# Altium footprint library LIANGJICHAO_LIBRARY.PCBLIB: 178 footprints (part 3 of 12)
Each footprint in its own frame and in the unit in brackets; x right, y up, seen from the top. Pads: shape width x height; smd on the part's side, far side on the other; paste and mask are expansions set on the pad; w line width, h text height; cw(c..) or ccw(c..) is an arc to the next point about the centre after c.
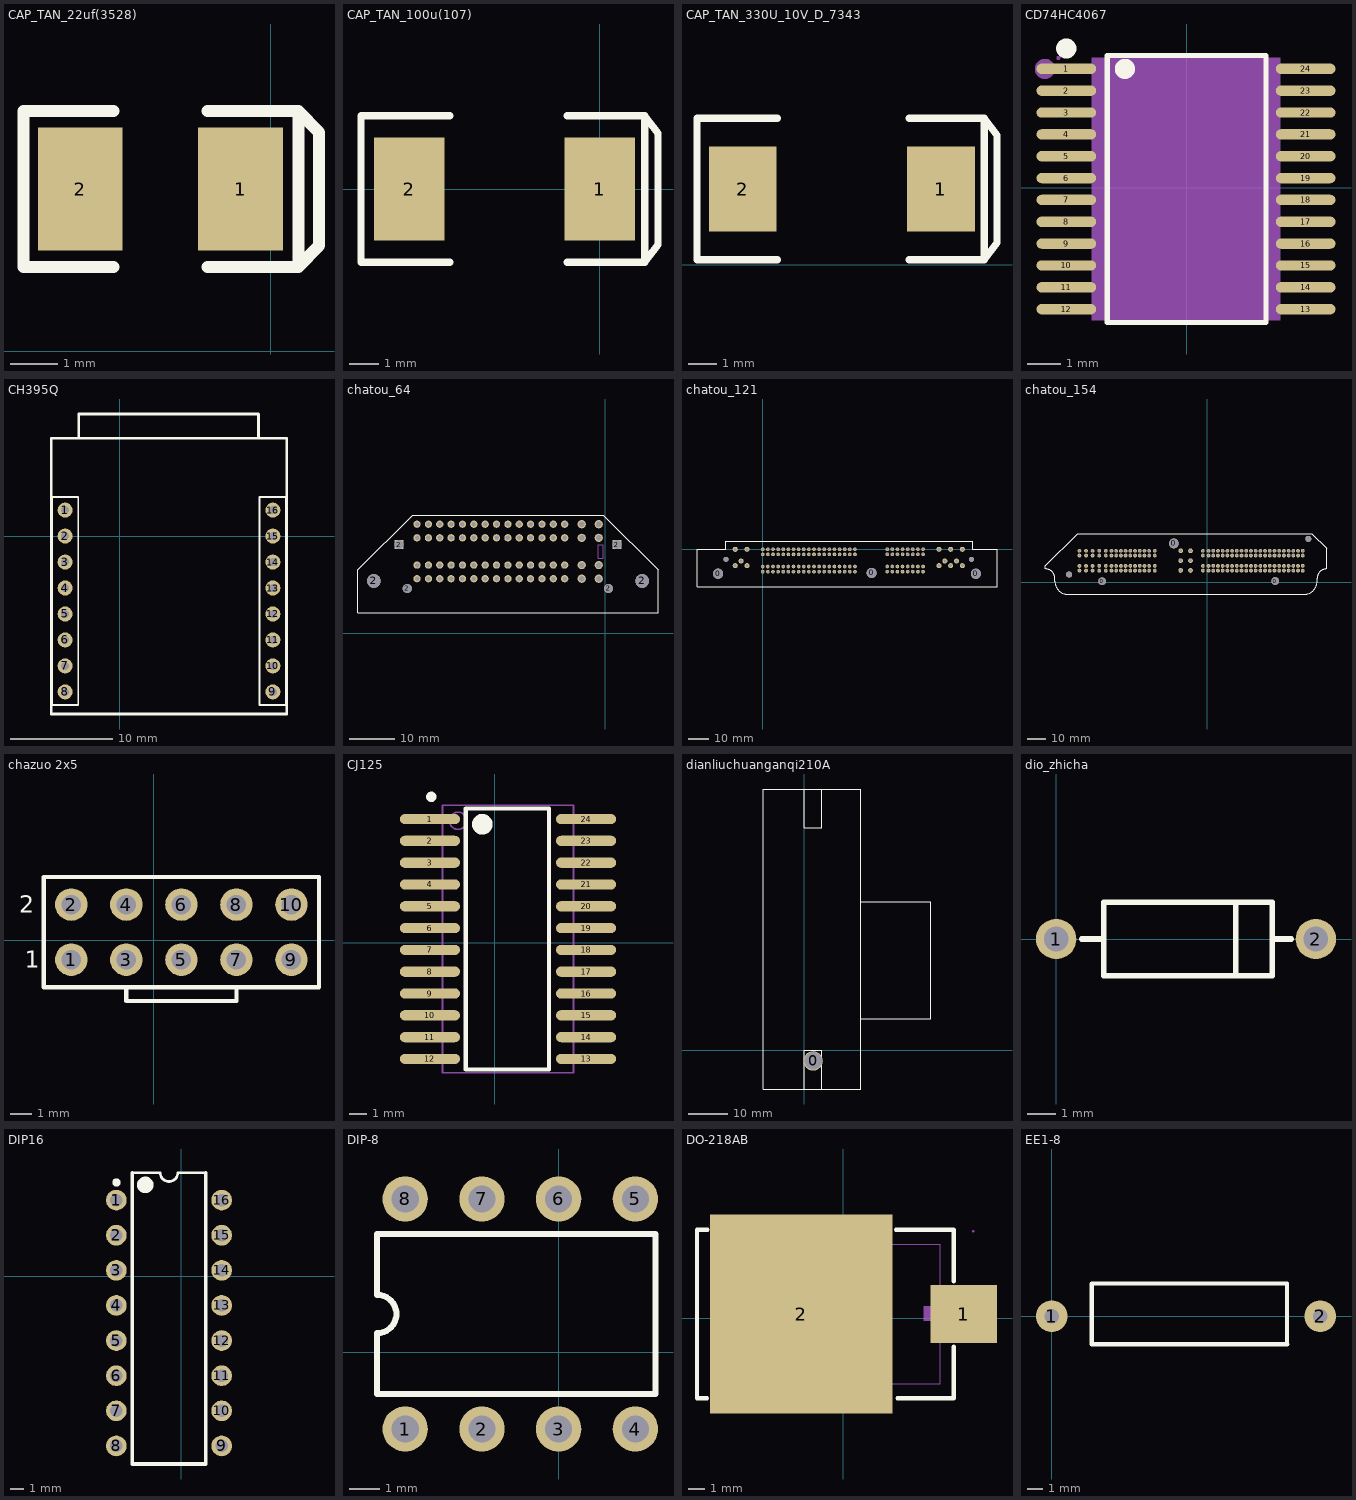
[diagram p2: the footprints below, top view; thin cyan lines are the x and y axes]

## CAP_TAN_22uf(3528) [mm]
pads (2):
  rect 1.8x2.6 smd: 1(-0.635,3.437) 2(-4.035,3.437)
Top Overlay:
  lines w0.254: -3.335,1.787 -5.237,1.787 -5.237,5.087 -3.335,5.087 ; -1.335,1.787 0.592,1.787 ; -1.335,5.087 0.592,5.087 ; 0.592,1.787 0.592,5.087 ; 0.592,1.787 1.028,2.237 1.028,4.637 0.592,5.087

## CAP_TAN_100u(107) [mm]
pads (2):
  rect 2.4x3.5 smd: 1(0,0) 2(-6.5,0)
Top Overlay:
  lines w0.254: -5.12,-2.5 -8.148,-2.5 -8.148,2.5 -5.12,2.5 ; -1.12,-2.5 1.527,-2.5 ; -1.12,2.5 1.527,2.5 ; 1.527,-2.5 1.98,-1.9 1.98,1.9 1.527,2.5 ; 1.527,-2.5 1.527,2.5

## CAP_TAN_330U_10V_D_7343 [mm]
pads (2):
  rect 2.4x3 smd: 1(11.064,2.667) 2(4.064,2.667)
Top Overlay:
  lines w0.254: 5.289,0.167 2.447,0.167 2.447,5.167 5.289,5.167 ; 9.944,0.167 12.591,0.167 ; 9.944,5.167 12.591,5.167 ; 12.591,0.167 12.591,5.167 ; 12.591,0.167 13.044,0.767 13.044,4.567 12.591,5.167

## CD74HC4067 [mil]
pads (24):
  oval 70x12.13 smd: 1(-140.98,139.22) 2(-140.98,113.63) 3(-140.98,88.04) 4(-140.98,62.45) 5(-140.98,36.86) 6(-140.98,11.27) 7(-140.98,-14.32) 8(-140.98,-39.92) 9(-140.98,-65.51) 10(-140.98,-91.1) 11(-140.98,-116.69) 12(-140.98,-142.28) 13(139.5,-142.28) 14(139.5,-116.69) 15(139.5,-91.1) 16(139.5,-65.51) 17(139.5,-39.92) 18(139.5,-14.32) 19(139.5,11.27) 20(139.5,36.86) 21(139.5,62.45) 22(139.5,88.04) 23(139.5,113.63) 24(139.5,139.22)
Top Overlay:
  circle w11.81: c-72.35,139.22 r5.91
  circle w11.81: c-140.98,163.09 r5.91
  lines w6: -93,-158.07 93,-158.07 93,155.01 -93,155.01 -93,-158.07
Mechanical 4:
  region: -110.98,152.01 109.5,152.01 109.5,-155.07 -110.98,-155.07
Mechanical 5:
  drawing of 48 lines, arcs and shapes, not listed
Mechanical 6:
  circle w2.36: c-150.35,152.01 r1.18
Mechanical 15:
  circle w11.81: c-166.09,139.22 r5.91

## CH395Q [mil]
pads (16):
  round 58 hole 31: 1(-210,100.41) 2(-210,0.41) 3(-210,-99.59) 4(-210,-199.59) 5(-210,-299.59) 6(-210,-399.59) 7(-210,-499.59) 8(-210,-599.59) 9(590,-599.59) 10(590,-499.59) 11(590,-399.59) 12(590,-299.59) 13(590,-199.59) 14(590,-99.59) 15(590,0.41) 16(590,100.41)
Top Overlay:
  lines w7: -261,-650 -160,-650 -160,151 -261,151 -261,-650 ; 539,-650 539,151 640,151 640,-650 539,-650
  lines w10: -263,377 -263,-685 643,-685 643,378 -262,378 ; -158,378 -158,471 535,471 535,378

## chatou_64 [mm]
pads (70):
  round 1.6 hole 1: 1(-41.459,11.956) 2(-38.959,11.956) 3(-36.459,11.956) 4(-33.959,11.956) 5(-31.459,11.956) 6(-28.959,11.956) 7(-26.459,11.956) 8(-23.959,11.956) 9(-21.459,11.956) 10(-18.959,11.956) 11(-16.459,11.956) 12(-13.959,11.956) 13(-11.459,11.956) 14(-8.959,11.956) 19(-8.959,14.956) 20(-11.459,14.956) 21(-13.959,14.956) 22(-16.459,14.956) 23(-18.959,14.956) 24(-21.459,14.956) 25(-23.959,14.956) 26(-26.459,14.956) 27(-28.959,14.956) 28(-31.459,14.956) 29(-33.959,14.956) 30(-36.459,14.956) 31(-38.959,14.956) 32(-41.459,14.956) 33(-41.459,20.956) 34(-38.959,20.956) 35(-36.459,20.956) 36(-33.959,20.956) 37(-31.459,20.956) 38(-28.959,20.956) 39(-26.459,20.956) 40(-23.959,20.956) 41(-21.459,20.956) 42(-18.959,20.956) 43(-16.459,20.956) 44(-13.959,20.956) 45(-11.459,20.956) 46(-8.959,20.956) 51(-8.959,23.956) 52(-11.459,23.956) 53(-13.959,23.956) 54(-16.459,23.956) 55(-18.959,23.956) 56(-21.459,23.956) 57(-23.959,23.956) 58(-26.459,23.956) 59(-28.959,23.956) 60(-31.459,23.956) 61(-33.959,23.956) 62(-36.459,23.956) 63(-38.959,23.956) 64(-41.459,23.956)
  round 3 hole 3: 2(-50.959,11.456) 2(8.089,11.456)
  rect 2x2 hole 2 square: 2(-45.411,19.456) 2(2.541,19.456)
  round 2 hole 2: 2(-43.611,9.804) 2(0.693,9.804)
  round 1.8 hole 1.2: 15(-5.209,11.956) 16(-1.459,11.956) 17(-1.459,14.956) 18(-5.209,14.956) 47(-5.209,20.956) 48(-1.459,20.956) 49(-1.459,23.956) 50(-5.209,23.956)
Top Overlay:
  lines w0.254: 11.589,13.931 11.589,4.431 -54.459,4.431 -54.459,13.956 -42.459,25.956 -41.459,25.956 -1.459,25.956 -0.459,25.956 -0.411,25.956 11.589,13.956
Mechanical 1:
  lines w0.254: -1.62,16.459 -1.62,19.459 -0.429,19.459 -0.42,19.45 -0.42,17.959 -0.42,16.459 -1.62,16.459

## chatou_121 [mm]
pads (126):
  round 5 hole 5: 0(-22.173,-12.13) 0(54,-11.709) 0(105.664,-12.141)
  round 2.5 hole 2.5: 0(-18.276,-5) 0(103.524,-5)
  round 2.5 hole 1.5: 1(-13.673,-8.13) 2(-7.873,-8.13) 3(-10.776,-5.8) 4(-13.673,0) 5(-7.873,0) 114(87.4,-8.13) 115(93.2,-8.13) 116(99,-8.13) 117(90.297,-5.8) 118(96.097,-5.8) 119(87.4,0) 120(93.2,0) 121(99,0)
  round 1.8 hole 1.1: 6(45.72,0) 7(43.18,0) 8(40.64,0) 9(38.1,0) 10(35.56,0) 11(33.02,0) 12(30.48,0) 13(27.94,0) 14(25.4,0) 15(22.86,0) 16(20.32,0) 17(17.78,0) 18(15.24,0) 19(12.7,0) 20(10.16,0) 21(7.62,0) 22(5.08,0) 23(2.54,0) 24(0,0) 25(45.72,-2.54) 26(43.18,-2.54) 27(40.64,-2.54) 28(38.1,-2.54) 29(35.56,-2.54) 30(33.02,-2.54) 31(30.48,-2.54) 32(27.94,-2.54) 33(25.4,-2.54) 34(22.86,-2.54) 35(20.32,-2.54) 36(17.78,-2.54) 37(15.24,-2.54) 38(12.7,-2.54) 39(10.16,-2.54) 40(7.62,-2.54) 41(5.08,-2.54) 42(2.54,-2.54) 43(0,-2.54) 44(45.72,-8.56) 45(43.18,-8.56) 46(40.615,-8.56) 47(38.075,-8.56) 48(35.535,-8.56) 49(32.995,-8.56) 50(30.455,-8.56) 51(27.915,-8.56) 52(25.4,-8.56) 53(22.86,-8.56) 54(20.32,-8.56) 55(17.78,-8.56) 56(15.215,-8.56) 57(12.675,-8.56) 58(10.135,-8.56) 59(7.595,-8.56) 60(5.055,-8.56) 61(2.515,-8.56) 62(-0.025,-8.56) 63(45.72,-11.1) 64(43.18,-11.1) 65(40.615,-11.1) 66(38.075,-11.1) 67(35.535,-11.1) 68(32.995,-11.1) 69(30.455,-11.1) 70(27.915,-11.1) 71(25.4,-11.1) 72(22.86,-11.1) 73(20.32,-11.1) 74(17.78,-11.1) 75(15.215,-11.1) 76(12.675,-11.1) 77(10.135,-11.1) 78(7.595,-11.1) 79(5.055,-11.1) 80(2.515,-11.1) 81(-0.025,-11.1) 82(61.697,-11.074) 83(64.237,-11.074) 84(66.777,-11.074) 85(69.317,-11.074) 86(71.857,-11.074) 87(74.397,-11.074) 88(76.962,-11.074) 89(79.502,-11.074) 90(61.697,-8.534) 91(64.237,-8.534) 92(66.777,-8.534) 93(69.317,-8.534) 94(71.857,-8.534) 95(74.397,-8.534) 96(76.962,-8.534) 97(79.502,-8.534) 98(61.722,-2.515) 99(64.262,-2.515) 100(66.802,-2.515) 101(69.342,-2.515) 102(71.882,-2.515) 103(74.422,-2.515) 104(76.962,-2.515) 105(79.502,-2.515) 106(61.722,0.025) 107(64.262,0.025) 108(66.802,0.025) 109(69.342,0.025) 110(71.882,0.025) 111(74.422,0.025) 112(76.962,0.025) 113(79.502,0.025)
Top Overlay:
  lines w0.254: -32.637,0 -18.39,0 -18.39,3.988 104.242,3.988 104.242,0 104.267,-0.025 116.18,-0.025 116.18,-18.593 -29.591,-18.593 ; -32.614,-0.024 -32.614,-18.593 -29.337,-18.593

## chatou_154 [mm]
pads (161):
  round 3.2 hole 3.2: 0(-73.245,4.111) 0(53.645,23.034)
  round 4 hole 4: 0(-55.764,0.555) 0(36.119,0.682)
  round 5.2 hole 5.2: 0(-17.683,20.621)
  round 2 hole 1.2: 1(-67.767,6.198) 2(-64.267,6.198) 3(-60.767,6.198) 4(-57.267,6.198) 5(-53.767,6.198) 6(-50.767,6.198) 7(-48.267,6.198) 8(-45.767,6.198) 9(-43.267,6.198) 10(-40.767,6.198) 11(-38.267,6.198) 12(-35.767,6.198) 13(-33.267,6.198) 14(-30.767,6.198) 15(-27.767,6.198) 16(-27.767,8.698) 17(-30.767,8.698) 18(-33.267,8.698) 19(-35.767,8.698) 20(-38.267,8.698) 21(-40.767,8.698) 22(-43.267,8.698) 23(-45.767,8.698) 24(-48.267,8.698) 25(-50.767,8.698) 26(-53.767,8.698) 27(-57.267,8.698) 28(-60.767,8.698) 29(-64.267,8.698) 30(-67.767,8.698) 31(-67.767,14.198) 32(-64.267,14.198) 33(-60.767,14.198) 34(-57.267,14.198) 35(-53.767,14.198) 36(-50.767,14.198) 37(-48.267,14.198) 38(-45.767,14.198) 39(-43.267,14.198) 40(-40.767,14.198) 41(-38.267,14.198) 42(-35.767,14.198) 43(-33.267,14.198) 44(-30.767,14.198) 45(-27.767,14.198) 46(-27.767,16.698) 47(-30.767,16.698) 48(-33.267,16.698) 49(-35.767,16.698) 50(-38.267,16.698) 51(-40.767,16.698) 52(-43.267,16.698) 53(-45.767,16.698) 54(-48.267,16.698) 55(-50.767,16.698) 56(-53.767,16.698) 57(-57.267,16.698) 58(-60.767,16.698) 59(-64.267,16.698) 60(-67.767,16.698) 67(-2.276,6.198) 68(0.724,6.198) 69(3.224,6.198) 70(5.724,6.198) 71(8.224,6.198) 72(10.724,6.198) 73(13.224,6.198) 74(15.724,6.198) 75(18.224,6.198) 76(20.724,6.198) 77(23.224,6.198) 78(25.724,6.198) 79(28.224,6.198) 80(30.724,6.198) 81(33.224,6.198) 82(35.724,6.198) 83(38.224,6.198) 84(40.724,6.198) 85(43.224,6.198) 86(45.724,6.198) 87(48.224,6.198) 88(50.724,6.198) 89(50.724,8.698) 90(48.224,8.698) 91(45.724,8.698) 92(43.224,8.698) 93(40.724,8.698) 94(38.224,8.698) 95(35.724,8.698) 96(33.224,8.698) 97(30.724,8.698) 98(28.224,8.698) 99(25.724,8.698) 100(23.224,8.698) 101(20.724,8.698) 102(18.224,8.698) 103(15.724,8.698) 104(13.224,8.698) 105(10.724,8.698) 106(8.224,8.698) 107(5.724,8.698) 108(3.224,8.698) 109(0.724,8.698) 110(-2.276,8.698) 111(-2.276,14.198) 112(0.724,14.198) 113(3.224,14.198) 114(5.724,14.198) 115(8.224,14.198) 116(10.724,14.198) 117(13.224,14.198) 118(15.724,14.198) 119(18.224,14.198) 120(20.724,14.198) 121(23.224,14.198) 122(25.724,14.198) 123(28.224,14.198) 124(30.724,14.198) 125(33.224,14.198) 126(35.724,14.198) 127(38.224,14.198) 128(40.724,14.198) 129(43.224,14.198) 130(45.724,14.198) 131(48.224,14.198) 132(50.724,14.198) 133(50.724,16.698) 134(48.224,16.698) 135(45.724,16.698) 136(43.224,16.698) 137(35.724,16.698) 137(40.724,16.698) 138(38.224,16.698) 139(35.724,16.698) 140(33.224,16.698) 141(30.724,16.698) 142(28.224,16.698) 143(25.724,16.698) 144(23.224,16.698) 145(20.724,16.698) 146(18.224,16.698) 147(15.724,16.698) 148(13.224,16.698) 149(10.724,16.698) 150(8.224,16.698) 151(5.724,16.698) 152(3.224,16.698) 153(0.724,16.698) 154(-2.276,16.698) 452(-50.767,16.698)
  round 2.5 hole 1.5: 61(-14.039,6.298) 62(-8.839,6.298) 63(-8.839,11.498) 64(-14.039,11.498) 65(-14.039,16.698) 66(-8.839,16.698)
Top Overlay:
  lines w0.254: -85.803,7.083 cw(c-85.803,2.083) -80.803,2.083 -80.803,0.583 ccw(c-73.803,0.583) -73.803,-6.417 51.357,-6.417 ccw(c51.357,0.583) 58.357,0.583 58.357,2.083 cw(c63.357,2.083) 63.357,7.083 63.357,18.003 55.533,25.828 -68.673,25.828 -85.803,8.698 -85.803,7.083

## chazuo 2x5 [mm]
pads (10):
  round 1.5 hole 0.9: 1(-3.81,-0.889) 2(-3.81,1.651) 3(-1.27,-0.889) 4(-1.27,1.651) 5(1.27,-0.889) 6(1.27,1.651) 7(3.81,-0.889) 8(3.81,1.651) 9(6.35,-0.889) 10(6.35,1.651)
Top Overlay:
  lines w0.2: -1.27,-2.159 -1.27,-2.794 3.81,-2.794 3.81,-2.159 ; -5.08,-2.159 -5.08,2.921 7.62,2.921 7.62,-2.159 -5.08,-2.159
  text "2" at -6.223,1.27 h0.8
  text "1" at -5.969,-1.27 h0.8

## CJ125 [mm]
pads (24):
  oval 3.5x0.6 smd: 1(-3.766,7.214) 2(-3.766,5.944) 3(-3.766,4.674) 4(-3.766,3.404) 5(-3.766,2.134) 6(-3.766,0.864) 7(-3.766,-0.406) 8(-3.766,-1.676) 9(-3.766,-2.946) 10(-3.766,-4.216) 11(-3.766,-5.486) 12(-3.766,-6.756) 13(5.334,-6.756) 14(5.334,-5.486) 15(5.334,-4.216) 16(5.334,-2.946) 17(5.334,-1.676) 18(5.334,-0.406) 19(5.334,0.864) 20(5.334,2.134) 21(5.334,3.404) 22(5.334,4.674) 23(5.334,5.944) 24(5.334,7.214)
Top Overlay:
  circle w0.6: c-0.711,6.909 r0.3
  circle w0.3: c-3.683,8.509 r0.15
  lines w0.254: -1.676,-7.371 -1.676,7.829 3.175,7.829 3.175,-7.371 -1.676,-7.371
Mechanical 13:
  circle w0.1: c-2.126,7.114 r0.5
  lines w0.1: -3.026,-7.556 -3.026,8.014 4.594,8.014 4.594,-7.556 -3.026,-7.556

## dianliuchuanganqi210A [mm]
pads (1):
  round 5 hole 4.5: 0(2.286,-2.794)
Top Overlay:
  lines w0.254: 0,-10 0,0 4.5,0 4.5,-9.945 ; 0,67 0,57 4.5,57 4.5,66.945 ; 14.5,8 32.5,8 32.5,38 14.5,38 ; 14.5,8 14.5,-10 -10.5,-10 -10.5,67 14.5,67 14.5,38 ; 14.5,8 14.5,38

## dio_zhicha [mm]
pads (2):
  round 1.4 hole 0.85: 1(0,0) 2(9,0)
Top Overlay:
  lines w0.2: 0.889,0 1.651,0 ; 6.223,-1.27 6.223,1.27 ; 7.493,0 8.15,0 ; 1.651,-1.27 7.493,-1.27 7.493,1.27 1.651,1.27 1.651,-1.27

## DIP16 [mm]
pads (16):
  round 1.5 hole 0.9: 1(-4.68,5.501) 2(-4.68,2.961) 3(-4.68,0.421) 4(-4.68,-2.119) 5(-4.68,-4.659) 6(-4.68,-7.199) 7(-4.68,-9.739) 8(-4.68,-12.279) 9(2.94,-12.279) 10(2.94,-9.739) 11(2.94,-7.199) 12(2.94,-4.659) 13(2.94,-2.119) 14(2.94,0.421) 15(2.94,2.961) 16(2.94,5.501)
Top Overlay:
  circle w0.6: c-2.586,6.604 r0.3
  circle w0.3: c-4.67,6.781 r0.15
  lines w0.2: -3.52,7.48 -1.505,7.48 ccw(c-0.87,7.48) -0.235,7.48 1.78,7.48
  lines w0.254: -3.52,7.48 -3.52,-13.589 1.78,-13.589 1.78,7.48

## DIP-8 [mm]
pads (8):
  round 1.5 hole 0.9: 1(-5.08,-2.54) 2(-2.54,-2.54) 3(0,-2.54) 4(2.54,-2.54) 5(2.54,5.08) 6(0,5.08) 7(-2.54,5.08) 8(-5.08,5.08)
Top Overlay:
  lines w0.2: -6.008,-1.38 3.214,-1.38 3.214,3.92 -6.008,3.92 -6.008,1.905 cw(c-6.008,1.27) -6.008,0.635 -6.008,-1.38

## DO-218AB [mm]
pads (2):
  rect 4x3.5 smd: 1(7.29,0.26)
  rect 11x12 smd: 2(-2.514,0.26)
Top Overlay:
  lines w0.254: -8.204,-4.82 -8.814,-4.82 -8.814,5.34 -8.179,5.34 ; 3.2,5.34 6.68,5.34 6.68,2.241 ; 3.282,-4.82 6.68,-4.82 ; 6.68,-4.82 6.68,-1.722 6.68,-4.82
Mechanical 6:
  region: 4.865,-0.158 4.865,0.731 9.056,0.731 9.056,-0.158
  region: -3.911,-1.872 -4.8,-1.872 -4.8,2.319 -3.911,2.319
  region: -6.423,-0.096 -6.423,0.793 -2.232,0.793 -2.232,-0.096
Mechanical 15:
  region: 7.85,1.56 7.85,-1.04 5.85,-1.04 5.85,1.56
  region: 2.361,5.26 2.361,-4.74 -6.639,-4.74 -6.639,5.26
  region: 7.91,5.26 7.91,5.284 7.875,5.318 7.826,5.318 7.791,5.284 7.79,5.26 7.791,5.235 7.826,5.201 7.875,5.201 7.91,5.235
  lines w0.051: -7.639,-3.94 5.861,-3.94 5.861,4.46 -7.639,4.46 -7.639,-3.94

## EE1-8 [mm]
pads (2):
  round 2 hole 0.9: 1(0,0) 2(17,0)
Top Overlay:
  lines w0.254: 2.532,2.059 14.91,2.059 14.91,-1.778
  lines w0.3: 2.532,2.059 2.532,-1.778 14.91,-1.778